# Altium footprint library FUSER_MF-MSMF020-2.PcbLib: 1 footprints
Each footprint in its own frame and in the unit in brackets; x right, y up, seen from the top. Pads: shape width x height; smd on the part's side, far side on the other; paste and mask are expansions set on the pad; w line width, h text height; cw(c..) or ccw(c..) is an arc to the next point about the centre after c.
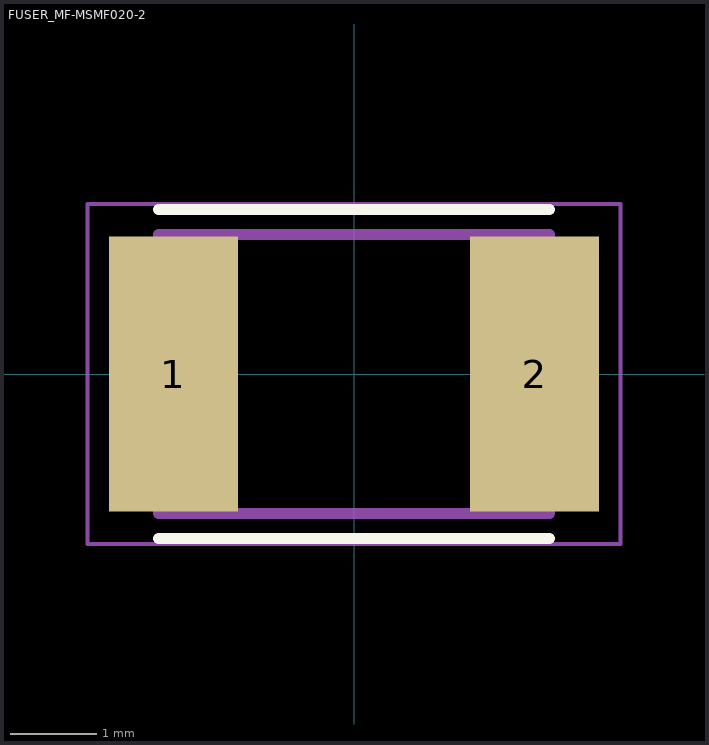
[diagram p0: the footprint, top view; thin cyan lines are the x and y axes]

## FUSER_MF-MSMF020-2 [mm]
pads (2):
  rect 1.5x3.2 smd: 1(-2.1,0) 2(2.1,0)
Top Overlay:
  lines w0.127: -2.275,-1.913 2.275,-1.913 ; -2.275,1.913 2.275,1.913
Mechanical 13:
  lines w0.127: -2.275,-1.62 -2.275,1.62 2.275,1.62 2.275,-1.62 -2.275,-1.62
Mechanical 15:
  lines w0.05: -3.1,-1.977 3.1,-1.977 3.1,1.977 -3.1,1.977 -3.1,-1.977
3D body "step_temp.STEP": height 0.85, standoff 0, extent -2.275,-1.62 2.275,1.62